# Altium footprint library LED_Nixie_Display.PcbLib: 3 footprints
Each footprint in its own frame and in the unit in brackets; x right, y up, seen from the top. Pads: shape width x height; smd on the part's side, far side on the other; paste and mask are expansions set on the pad; w line width, h text height; cw(c..) or ccw(c..) is an arc to the next point about the centre after c.
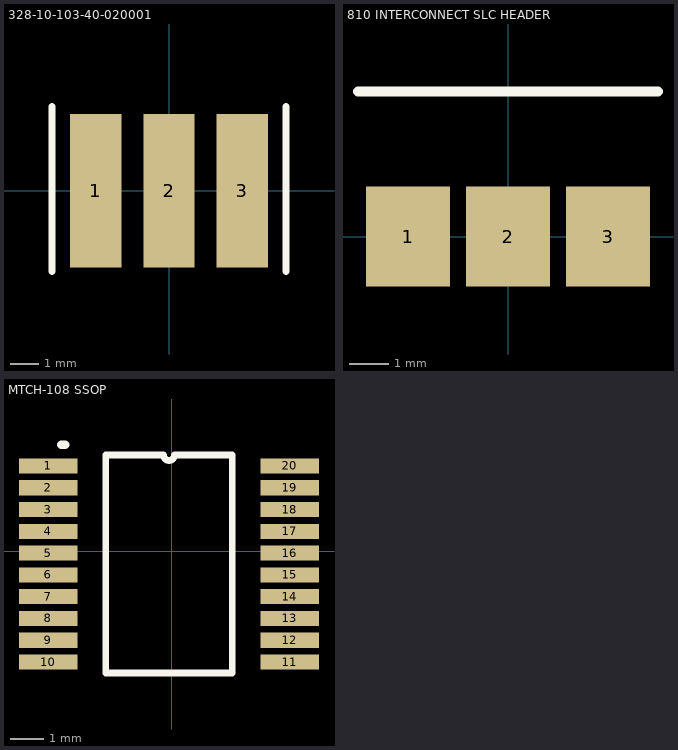
[diagram p0: the footprints below, top view; thin cyan lines are the x and y axes]

## 328-10-103-40-020001 [mil]
pads (3):
  rect 70x210 smd: 1(-100,0) 2(0,0) 3(100,0)
Top Overlay:
  lines w10: -160,-110 -160,115 ; 160,-110 160,115
3D body: height 83, standoff 0, extent -145,-115 145,225

## 810 INTERCONNECT SLC HEADER [mil]
pads (3):
  rect 84x100 smd: 1(-100,0) 2(0,0) 3(100,0)
Top Overlay:
  lines w10: -150,145 150,145
3D body: height 100, standoff 1, extent -150,-61.25 150,235.75

## MTCH-108 SSOP [mm]
pads (20):
  rect 1.75x0.45 smd: 1(-3.683,2.54) 2(-3.683,1.89) 3(-3.683,1.24) 4(-3.683,0.59) 5(-3.683,-0.06) 6(-3.683,-0.71) 7(-3.683,-1.36) 8(-3.683,-2.01) 9(-3.683,-2.66) 10(-3.683,-3.31) 11(3.517,-3.31) 12(3.517,-2.66) 13(3.517,-2.01) 14(3.517,-1.36) 15(3.517,-0.71) 16(3.517,-0.06) 17(3.517,0.59) 18(3.517,1.24) 19(3.517,1.89) 20(3.517,2.54)
Top Overlay:
  lines w0.2: -1.973,-3.635 -1.973,2.865 -0.245,2.865 ccw(c-0.083,2.865) 0.079,2.865 1.807,2.865 1.807,-3.635 -1.973,-3.635
  lines w0.254: -3.302,3.175 -3.175,3.175
3D body: height 2, standoff 0, extent -2.726,-3.981 2.574,3.219